# EAGLE library part MAX6675 (library misc)
Cold-Junction-Compensated K-Thermocoupleto-Digital Converter (0°C to +1024°C)
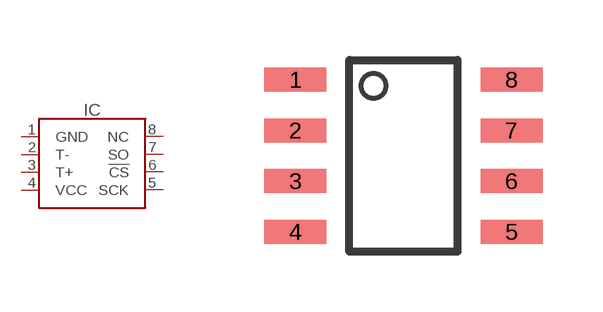
[diagram p27: symbol with the pads of SOIC8; footprint SOIC8]

Designator prefix IC

## MAX6675 (MANF: Analog Devices; MANF#: MAX6675ISA+)  [SOIC8]
1  GND
2  T-
3  T+
4  VCC
5  SCK
6  !CS
7  SO
8  NC

## Footprint SOIC8 (pad centres in mm)
https://www.ti.com/lit/ds/snvsaq5a/snvsaq5a.pdf?ts=1602424164509
smd 1.55 x 0.6: 1 -2.7,1.905; 2 -2.7,0.635; 3 -2.7,-0.635; 4 -2.7,-1.905; 5 2.7,-1.905; 6 2.7,-0.635; 7 2.7,0.635; 8 2.7,1.905